# Altium schematic symbol library Led 7 segment.SchLib: 1 symbol
Pins are listed as number, name and electrical type; pins without a type are passive.

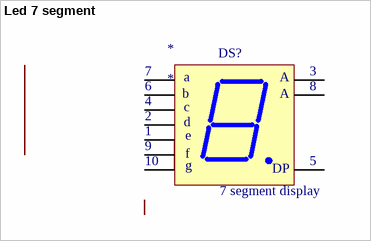
[diagram p0: symbol Led 7 segment]

## Led 7 segment
designator *
LED Display 7-Segment Green 0.39 Inch Common Cathode RHDP 2.2mcd; Manufacturer: Vishay Lite-On; Manufacturer Part Number: LTS-4301G; Forward Voltage: 2.1V; Max Power Dissipation: 75mW; Test Current: 20mA; Dominant Wavelength: 569nm; Number of Elements: 8; Reverse Voltage: 5V; Number of Characters: 1; Viewing Area (height): 10mm; Viewing Area Length: 6mm; Supplier 1: Mouser; RoHS: No; Category: LED Displays; Stock 1: 142; Pricing 1: 1=1.30000, 10=0.86700, 50=0.86700, 100=0.86700, 1000=0.55200, 10000=0.42200 (USD); Mount: Through Hole; Case/Package: DIP; Number of Pins: 10; Color: Green; Min Operating Temperature: -35°C; Max Operating Temperature: 85°C; Package Quantity: 36; Packaging: Rail/Tube; Luminous Intensity: 2.2mcd; Element Configuration: Common Cathode; Forward Current: 20mA; Power Dissipation: 75mW; Display Type: Segment; Operating Supply Voltage: 2.1V; Wavelength: 569nm; Illumination Color: Green; Power Consumption: 75mW; Length: 12.9mm; Width: 0.382inch; Height: 0.508inch; Depth: 9.7mm; RoHS Compliant: No; ComponentLink1URL: http://www.mouser.com/ds/2/239/S_110_S4301G-473563.pdf?src-supplier=Mouser; ComponentLink1Description: http://www.mouser.com/ds/2/239/S_110_S4301G-473563.pdf?src-supplier=Mouser; ComponentLink2URL: http://components.arrow.com/part/dataview/0323_01975177?src-supplier=Arrow+Europe; ComponentLink2Description: http://components.arrow.com/part/dataview/0323_01975177?src-supplier=Arrow+Europe; ComponentLink3URL: http://www.jameco.com/Jameco/Products/ProdDS/2227911.pdf?src-supplier=Jameco; ComponentLink3Description: http://www.jameco.com/Jameco/Products/ProdDS/2227911.pdf?src-supplier=Jameco; ComponentLink4URL: http://optoelectronics.liteon.com/zh-cn/api/DwonloadFileHandler.ashx?txtSpecNo=DS-30-96-261&src-supplier=Avnet; ComponentLink4Description: http://optoelectronics.liteon.com/zh-cn/api/DwonloadFileHandler.ashx?txtSpecNo=DS-30-96-261&src-supplier=Avnet
footprint 7SEGS (DIP 10 Leads; Body 12 x 15 mm; Pitch 0.5 mm)
footprint Leg7 Segment
pins: ?1, ?2, ?3, ?4, ?5, ?6, ?7, ?8, ?9, ?10
text: DS?; 7; 3; a; A; 6; b; 4; c; 2; d; e; 9; f; 5; g; DP; 7 segment display